# EAGLE library part MOLEX_SLIMSTACK_64 (library RHD2000)
Molex 64-pin SlimStack connector (DigiKey WM24076-ND)
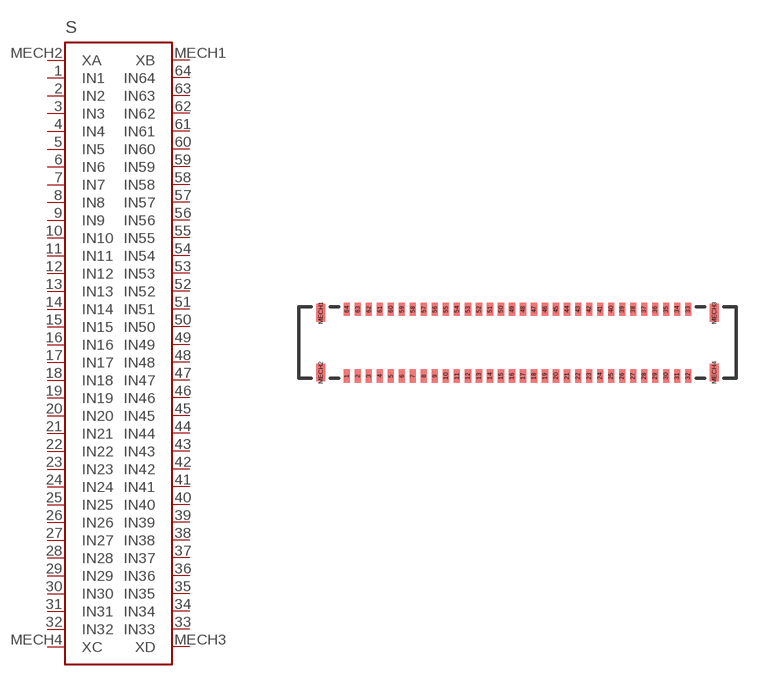
[diagram p6: symbol with the pads of MOLEX_SLIMSTACK_64; footprint MOLEX_SLIMSTACK_64]

Designator prefix S

## MOLEX_SLIMSTACK_64  [MOLEX_SLIMSTACK_64]
1  IN1
2  IN2
3  IN3
4  IN4
5  IN5
6  IN6
7  IN7
8  IN8
9  IN9
10  IN10
11  IN11
12  IN12
13  IN13
14  IN14
15  IN15
16  IN16
17  IN17
18  IN18
19  IN19
20  IN20
21  IN21
22  IN22
23  IN23
24  IN24
25  IN25
26  IN26
27  IN27
28  IN28
29  IN29
30  IN30
31  IN31
32  IN32
33  IN33
34  IN34
35  IN35
36  IN36
37  IN37
38  IN38
39  IN39
40  IN40
41  IN41
42  IN42
43  IN43
44  IN44
45  IN45
46  IN46
47  IN47
48  IN48
49  IN49
50  IN50
51  IN51
52  IN52
53  IN53
54  IN54
55  IN55
56  IN56
57  IN57
58  IN58
59  IN59
60  IN60
61  IN61
62  IN62
63  IN63
64  IN64
MECH1  XB  pas
MECH2  XA  pas
MECH3  XD  pas
MECH4  XC  pas

## Footprint MOLEX_SLIMSTACK_64 (pad centres in mm)
Molex SlimStack 64-pin connector (DigiKey part WM24076-ND)
smd 0.22 x 0.475: 1 -6.2,-1.212; 2 -5.8,-1.212; 3 -5.4,-1.212; 4 -5,-1.212; 5 -4.6,-1.212; 6 -4.2,-1.212; 7 -3.8,-1.212; 8 -3.4,-1.212; 9 -3,-1.212; 10 -2.6,-1.212; 11 -2.2,-1.212; 12 -1.8,-1.212; 13 -1.4,-1.212; 14 -1,-1.212; 15 -0.6,-1.212; 16 -0.2,-1.212; 17 0.2,-1.212; 18 0.6,-1.212; 19 1,-1.212; 20 1.4,-1.212; 21 1.8,-1.212; 22 2.2,-1.212; 23 2.6,-1.212; 24 3,-1.212; 25 3.4,-1.212; 26 3.8,-1.212; 27 4.2,-1.212; 28 4.6,-1.212; 29 5,-1.212; 30 5.4,-1.212; 31 5.8,-1.212; 32 6.2,-1.212; 33 6.2,1.212; 34 5.8,1.212; 35 5.4,1.212; 36 5,1.212; 37 4.6,1.212; 38 4.2,1.212; 39 3.8,1.212; 40 3.4,1.212; 41 3,1.212; 42 2.6,1.212; 43 2.2,1.212; 44 1.8,1.212; 45 1.4,1.212; 46 1,1.212; 47 0.6,1.212; 48 0.2,1.212; 49 -0.2,1.212; 50 -0.6,1.212; 51 -1,1.212; 52 -1.4,1.212; 53 -1.8,1.212; 54 -2.2,1.212; 55 -2.6,1.212; 56 -3,1.212; 57 -3.4,1.212; 58 -3.8,1.212; 59 -4.2,1.212; 60 -4.6,1.212; 61 -5,1.212; 62 -5.4,1.212; 63 -5.8,1.212; 64 -6.2,1.212
smd 0.32 x 0.65: MECH1 -7.15,1.085; MECH2 -7.15,-1.085; MECH3 7.15,1.085; MECH4 7.15,-1.085